# Altium footprint library ESDA7P60-1U1M.PcbLib: 2 footprints
Each footprint in its own frame and in the unit in brackets; x right, y up, seen from the top. Pads: shape width x height; smd on the part's side, far side on the other; paste and mask are expansions set on the pad; w line width, h text height; cw(c..) or ccw(c..) is an arc to the next point about the centre after c.
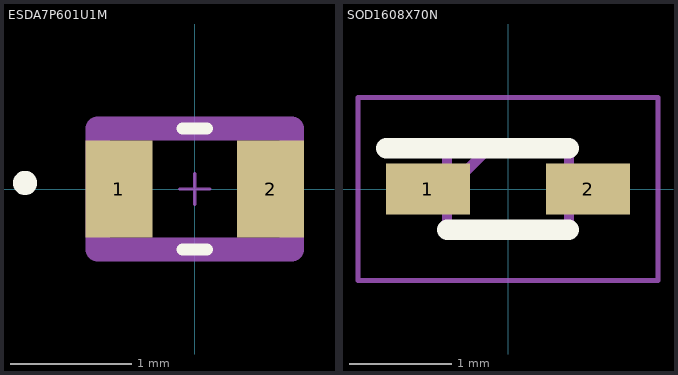
[diagram p0: the footprints below, top view; thin cyan lines are the x and y axes]

## ESDA7P601U1M [mm]
pads (2):
  rect 0.55x0.8 smd: 1(-0.625,0) 2(0.625,0)
Top Overlay:
  lines w0.1: -0.1,-0.5 0.1,-0.5 ; -0.1,0.5 0.1,0.5 ; -1.4,0 cw(c-1.4,0.05) -1.4,0.1 cw(c-1.4,0.05) -1.4,0
Mechanical 13:
  lines w0.2: -0.8,-0.5 0.8,-0.5 0.8,0.5 -0.8,0.5 -0.8,-0.5
Mechanical 15:
  lines w0.025: -0.127,0 0.127,0 ; 0,-0.127 0,0.127
3D body "ESDA7P60-1U1M.stp": height 0.7, standoff 0, extent -0.845,-0.5 0.845,0.5

## SOD1608X70N [mm]
pads (2):
  rect 0.825x0.5 smd: 1(-0.788,0) 2(0.788,0)
Top Overlay:
  lines w0.2: -1.2,0.4 0.6,0.4 ; -0.6,-0.4 0.6,-0.4
Mechanical 13:
  lines w0.1: -0.6,-0.012 -0.188,0.4 ; -0.6,-0.4 0.6,-0.4 0.6,0.4 -0.6,0.4 -0.6,-0.4
Mechanical 15:
  lines w0.05: -1.475,-0.9 1.475,-0.9 1.475,0.9 -1.475,0.9 -1.475,-0.9